# Altium footprint library SparkFun-Batteries.PCBLIB: 17 footprints (part 1 of 2)
Each footprint in its own frame and in the unit in brackets; x right, y up, seen from the top. Pads: shape width x height; smd on the part's side, far side on the other; paste and mask are expansions set on the pad; w line width, h text height; cw(c..) or ccw(c..) is an arc to the next point about the centre after c.
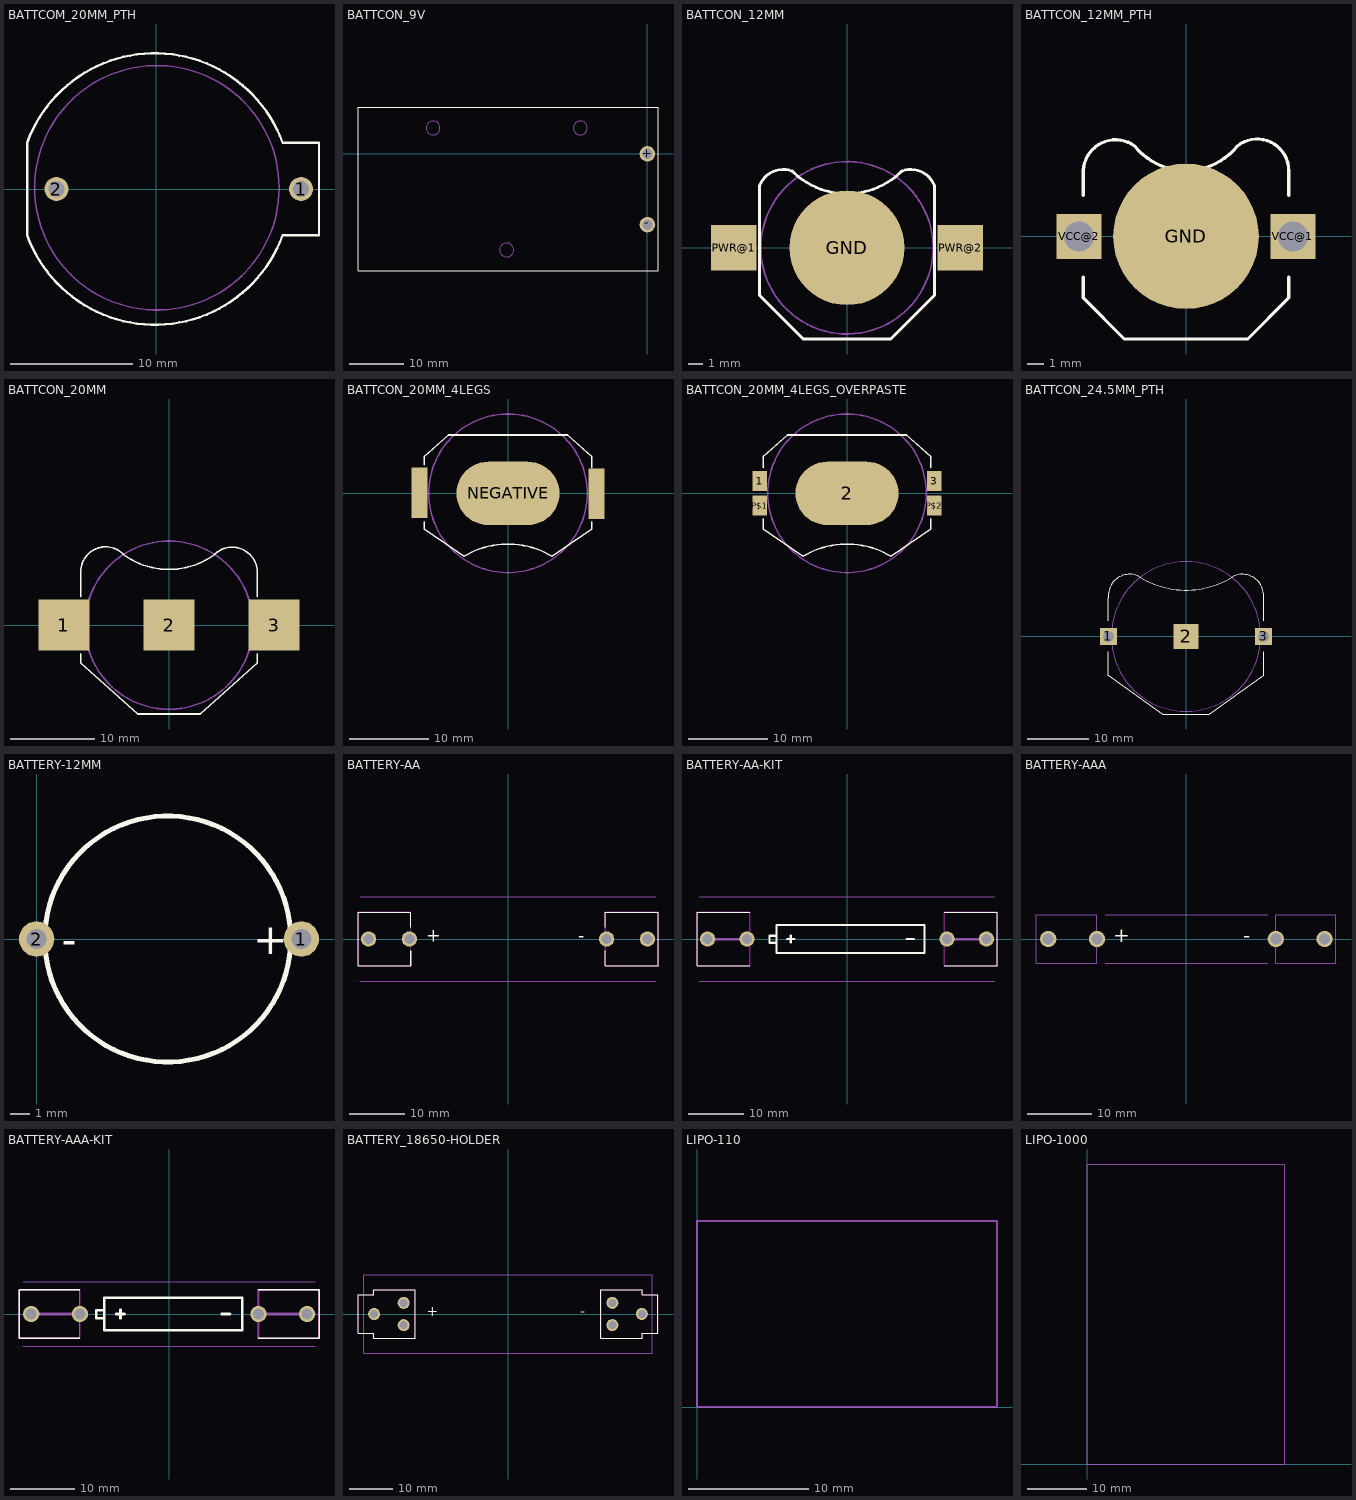
[diagram p0: the footprints below, top view; thin cyan lines are the x and y axes]

## BATTCOM_20MM_PTH [mil]
pads (2):
  round 76.77 hole 51.18: 1(466.54,0) 2(-320.87,0)
Top Overlay:
  lines w8: -414.96,-149.61 ccw(c-3.94,0.57) 407.09,-149.61 524.41,-149.61 524.41,149.61 407.09,149.61 ccw(c-3.94,-0.57) -414.96,149.61 -414.96,-149.61
Mechanical 16:
  circle w5: c2.36,3.94 r393.7
  text "-" at -251.97,-27.56 h77.5
  text "+" at 338.58,-27.56 h77.5
3D body: height 334.65, standoff -157.48, extent -433.07,-433.07 531.5,433.07

## BATTCON_9V [mil]
pads (2):
  round 112.5 hole 75: +(0,0) -(0,-510)
Top Overlay:
  lines w8: -2087,-843 -2087,337 76,337 76,-843 -2087,-843
Mechanical 16:
  circle w5: c-1015,-693 r50
  circle w5: c-484,187 r50
  circle w5: c-1546,187 r50

## BATTCON_12MM [mil]
pads (3):
  rrect100% 314.96x314.96 smd: GND(0,0)
  rect 125x125 smd: PWR@1(-310,0) PWR@2(310,0)
Top Overlay:
  lines w8: -240,-130 -120,-250 120,-250 240,-130 240,170 ccw(c175,145) 150,210 cw(c0,360) -150,210 ccw(c-175,145) -240,170 -240,-130
Top Paste:
  circle w78.74: c0,0 r39.37
Mechanical 16:
  circle w5: c0,0 r236.22
Mechanical 27:
  circle w5: c0,0 r236.22

## BATTCON_12MM_PTH [mil]
pads (3):
  rrect100% 354.33x354.33 smd: GND(0,0)
  rect 109.5x109.5 hole 73: VCC@1(260,0) VCC@2(-260,0)
Top Overlay:
  lines w8: -250,-100 -250,-150 -150,-250 150,-250 250,-150 250,-100 ; -250,100 -250,160 cw(c-171.35,156.35) -125,220 ccw(c0,320.21) 125,220 cw(c173.12,160.04) 250,160 250,100
Top Paste:
  circle w78.74: c0,0 r39.37

## BATTCON_20MM [mil]
pads (3):
  rect 238.98x238.98 smd: 1(-492.13,0) 2(0,0) 3(492.13,0)
Top Overlay:
  lines w8: -413.39,-133.86 -413.39,-177.17 -145.67,-416.14 145.67,-416.14 413.39,-177.17 413.39,-133.86 ; -413.39,133.86 -413.39,248.03 cw(c-296.55,249.77) -208.66,326.77 ccw(c0,624.77) 208.66,326.77 cw(c295.52,247.08) 413.39,248.03 413.39,133.86
Mechanical 16:
  circle w8: c0,0 r393.7

## BATTCON_20MM_4LEGS [mil]
pads (5):
  rrect100% 511.81x314.96 smd: NEGATIVE(0,0)
  rect 80x125 smd: POSITIVE@1(-440,65) POSITIVE@2(-440,-60) POSITIVE@3(440,60) POSITIVE@4(440,-65)
Top Overlay:
  lines w8: -415.35,-140.98 -415.35,-179.13 -218.5,-312.99 cw(c0,-673.66) 218.5,-312.99 415.35,-179.13 415.35,-140.98 ; -415.35,140.98 -415.35,183.07 -295.28,289.37 295.28,289.37 415.35,183.07 415.35,125.98
Top Paste:
  rectangle: 390,-140 530,140
  rectangle: -530,-135 -390,145
  rectangle: -78.74,-78.74 78.74,78.74
Mechanical 16:
  circle w8: c0,0 r393.7
  lines w8: -450.79,-100.39 -450.79,-21.65 -415.35,-21.65 -415.35,-100.39 -450.79,-100.39 ; -450.79,21.65 -450.79,100.39 -415.35,100.39 -415.35,21.65 -450.79,21.65 ; 415.35,-100.39 450.79,-100.39 450.79,-21.65 415.35,-21.65 415.35,-100.39 ; 415.35,21.65 450.79,21.65 450.79,100.39 415.35,100.39 415.35,21.65

## BATTCON_20MM_4LEGS_OVERPASTE [mil]
pads (5):
  rect 70x100 smd: 1(-433.07,61.02) 3(433.07,61.02) P$1(-433.07,-61.02) P$2(433.07,-61.02)
  rrect100% 511.81x314.96 smd: 2(0,0)
Top Overlay:
  lines w8: -415.35,-125.98 -415.35,-179.13 -218.5,-312.99 cw(c0,-673.66) 218.5,-312.99 415.35,-179.13 415.35,-125.98 ; -415.35,125.98 -415.35,183.07 -295.28,289.37 295.28,289.37 415.35,183.07 415.35,125.98
Top Paste:
  rectangle: 390,-120 550,120
  rectangle: -550,-120 -390,120
  rectangle: -78.74,-78.74 78.74,78.74
Mechanical 16:
  circle w8: c0,0 r393.7
  lines w8: -450.79,-100.39 -450.79,-21.65 -415.35,-21.65 -415.35,-100.39 -450.79,-100.39 ; -450.79,21.65 -450.79,100.39 -415.35,100.39 -415.35,21.65 -450.79,21.65 ; 415.35,-100.39 450.79,-100.39 450.79,-21.65 415.35,-21.65 415.35,-100.39 ; 415.35,21.65 450.79,21.65 450.79,100.39 415.35,100.39 415.35,21.65

## BATTCON_24.5MM_PTH [mil]
pads (3):
  rect 109.5x109.5 hole 73: 1(-500,0) 3(500,0)
  rect 160x160 smd: 2(0,0)
Top Overlay:
  lines w8: -500,-100 -500,-250 -150,-500 150,-500 500,-250 500,-100 ; -500,100 -500,250 cw(c-363.94,264.08) -300,385 ccw(c0,867.1) 300,385 cw(c363.94,264.07) 500,250 500,100
Mechanical 16:
  circle w8: c0,0 r482.28

## BATTERY-12MM [mil]
pads (2):
  round 70 hole 40: 1(525,0) 2(0,0)
Top Overlay:
  circle w10: c260,0 r244.09
  text "-" at 50,-30 h60
  text "+" at 430,-30 h60

## BATTERY-AA [mil]
pads (4):
  round 109.5 hole 73: GND@1(990,0) GND@2(700,0) PWR@1(-990,0) PWR@2(-700,0)
Top Layer keep-out:
  lines w8: -690,-190 -690,190
  lines w10: -690,-190 -1065,-190 -1065,190 -690,190 ; 690,-190 690,190 1065,190 1065,-190 690,-190
Top Overlay:
  lines w8: -690,-190 -1065,-190 -1065,190 -690,190 -690,85 ; 690,-85 690,-190 1065,-190 1065,190 690,190 690,85
  lines w10: -690,-190 -690,-85
  text "-" at 500,-50 h155
  text "+" at -580,-50 h155
Mechanical 16:
  lines w5: -1050,-300 1050,-300 ; -1050,300 1050,300

## BATTERY-AA-KIT [mil]
pads (4):
  round 109.5 hole 73: GND@1(990,0) GND@2(710,0) PWR@1(-990,0) PWR@2(-710,0)
Top Layer keep-out:
  lines w10: -1065,-190 -1065,190 -690,190 -690,-190 -1065,-190 ; 690,-190 690,190 1065,190 1065,-190 690,-190
Top Overlay:
  lines w8: -690,-190 -1065,-190 -1065,190 -690,190 ; 690,-190 1065,-190 1065,190 690,190
  lines w16: -425,0 -375,0 ; -400,-25 -400,25 ; 425,0 475,0 ; -500,-27 -550,-27 -550,23 -500,23 ; -500,-27 -500,-100 550,-100 550,100 -500,100 -500,23 ; -500,-27 -500,23
Top Solder:
  region: 711.01,-34.12 709.47,-34.32 700.73,-33.17 692.58,-29.8 685.58,-24.43 680.21,-17.43 676.83,-9.27 675.87,-2.01 675.67,-0.5 676.86,8.51 680.34,16.92 685.87,24.13 693.08,29.66 701.49,33.14 708.99,34.13 709,34.24 709.5,34.3 718.5,33.12 726.9,29.64 734.11,24.11 739.64,16.9 743.12,8.5 744.23,0 744.29,-0.5 743.14,-9.25 739.77,-17.4 734.4,-24.4 727.4,-29.77 719.25,-33.14 711,-34.23
  region: -708.99,-34.12 -710.53,-34.32 -719.27,-33.17 -727.42,-29.8 -734.42,-24.43 -739.79,-17.43 -743.17,-9.27 -744.13,-2.01 -744.33,-0.5 -743.14,8.51 -739.66,16.92 -734.13,24.13 -726.92,29.66 -718.51,33.14 -711.01,34.13 -711,34.24 -710.5,34.3 -701.5,33.12 -693.1,29.64 -685.89,24.11 -680.36,16.9 -676.88,8.5 -675.77,0 -675.71,-0.5 -676.86,-9.25 -680.23,-17.4 -685.6,-24.4 -692.6,-29.77 -700.75,-33.14 -709,-34.23
  region: 991.01,-34.12 989.47,-34.32 980.73,-33.17 972.58,-29.8 965.58,-24.43 960.21,-17.43 956.83,-9.27 955.87,-2.01 955.67,-0.5 956.86,8.51 960.34,16.92 965.87,24.13 973.08,29.66 981.49,33.14 988.99,34.13 989,34.24 989.5,34.3 998.5,33.12 1006.9,29.64 1014.11,24.11 1019.64,16.9 1023.12,8.5 1024.23,0 1024.29,-0.5 1023.14,-9.25 1019.77,-17.4 1014.4,-24.4 1007.4,-29.77 999.25,-33.14 991,-34.23
  region: -988.99,-34.12 -990.53,-34.32 -999.27,-33.17 -1007.42,-29.8 -1014.42,-24.43 -1019.79,-17.43 -1023.17,-9.27 -1024.13,-2.01 -1024.33,-0.5 -1023.14,8.51 -1019.66,16.92 -1014.13,24.13 -1006.92,29.66 -998.51,33.14 -991.01,34.13 -991,34.24 -990.5,34.3 -981.5,33.12 -973.1,29.64 -965.89,24.11 -960.36,16.9 -956.88,8.5 -955.77,0 -955.71,-0.5 -956.86,-9.25 -960.23,-17.4 -965.6,-24.4 -972.6,-29.77 -980.75,-33.14 -989,-34.23
Bottom Solder:
  region: 762.28,-2.01 762.48,-0.5 760.64,13.47 755.25,26.49 746.67,37.67 735.49,46.25 722.47,51.64 710.01,53.28 709.99,53.24 697.89,51.65 684.75,46.2 673.46,37.54 664.8,26.25 659.35,13.11 657.5,-1 657.76,-3.01 657.68,-3.01 659.3,-15.32 664.44,-27.73 672.62,-38.38 683.27,-46.56 695.68,-51.7 709,-53.45 710.01,-53.32 710,-53.38 710.5,-53.45 723.94,-51.68 736.47,-46.49 747.23,-38.23 755.49,-27.47 760.68,-14.94 762.38,-2
  region: -657.72,-2.01 -657.52,-0.5 -659.36,13.47 -664.75,26.49 -673.33,37.67 -684.51,46.25 -697.53,51.64 -709.99,53.28 -710.01,53.24 -722.11,51.65 -735.25,46.2 -746.54,37.54 -755.2,26.25 -760.65,13.11 -762.5,-1 -762.24,-3.01 -762.32,-3.01 -760.7,-15.32 -755.56,-27.73 -747.38,-38.38 -736.73,-46.56 -724.32,-51.7 -711,-53.45 -709.99,-53.32 -710,-53.38 -709.5,-53.45 -696.06,-51.68 -683.53,-46.49 -672.77,-38.23 -664.51,-27.47 -659.32,-14.94 -657.62,-2
  region: 1042.28,-2.01 1042.48,-0.5 1040.64,13.47 1035.25,26.49 1026.67,37.67 1015.49,46.25 1002.47,51.64 990.01,53.28 989.99,53.24 977.89,51.65 964.75,46.2 953.46,37.54 944.8,26.25 939.35,13.11 937.5,-1 937.76,-3.01 937.68,-3.01 939.3,-15.32 944.44,-27.73 952.62,-38.38 963.27,-46.56 975.68,-51.7 989,-53.45 990.01,-53.32 990,-53.38 990.5,-53.45 1003.94,-51.68 1016.47,-46.49 1027.23,-38.23 1035.49,-27.47 1040.68,-14.94 1042.38,-2
  region: -937.72,-2.01 -937.52,-0.5 -939.36,13.47 -944.75,26.49 -953.33,37.67 -964.51,46.25 -977.53,51.64 -989.99,53.28 -990.01,53.24 -1002.11,51.65 -1015.25,46.2 -1026.54,37.54 -1035.2,26.25 -1040.65,13.11 -1042.5,-1 -1042.24,-3.01 -1042.32,-3.01 -1040.7,-15.32 -1035.56,-27.73 -1027.38,-38.38 -1016.73,-46.56 -1004.32,-51.7 -991,-53.45 -989.99,-53.32 -990,-53.38 -989.5,-53.45 -976.06,-51.68 -963.53,-46.49 -952.77,-38.23 -944.51,-27.47 -939.32,-14.94 -937.62,-2
Mechanical 14:
  lines w16: -945.5,-1.9 -744.6,-1.8 ; 744.5,-1.9 945.4,-1.8
Mechanical 16:
  lines w5: -1050,-300 1050,-300 ; -1050,300 1050,300

## BATTERY-AAA [mil]
pads (4):
  round 100.5 hole 67: GND@1(850,0) GND@2(550,0) PWR@1(-850,0) PWR@2(-550,0)
Top Overlay:
  text "-" at 350,-50 h155
  text "+" at -450,-50 h155
Mechanical 16:
  lines w5: -500,-150 500,-150 ; -500,150 500,150 ; -925,-150 -925,150 -550,150 -550,-150 -925,-150 ; 550,-150 920,-150 920,150 550,150 550,-150

## BATTERY-AAA-KIT [mil]
pads (4):
  round 100.5 hole 67: GND@1(850,0) GND@2(550,0) PWR@1(-850,0) PWR@2(-550,0)
Top Layer keep-out:
  lines w8: -923,-150 -923,150
  lines w10: -923,-150 -550,-150 -550,150 -923,150 ; 550,-150 550,150 923,150 923,-150 550,-150
Top Overlay:
  lines w8: -550,-150 -923,-150 -923,150 -550,150 ; 550,-150 923,-150 923,150 550,150
  lines w16: -325,0 -275,0 ; -300,-25 -300,25 ; 325,0 375,0 ; -400,-27 -450,-27 -450,23 -400,23 ; -400,-27 -400,-100 450,-100 450,100 -400,100 -400,23 ; -400,-27 -400,23
Top Solder:
  circle w35: c-850,0 r15.81
  circle w35: c-550,0 r15.81
  circle w35: c850,0 r15.81
  circle w35: c550,0 r15.81
Bottom Solder:
  circle w70: c-850,0 r15.81
  circle w70: c-550,0 r15.81
  circle w70: c850,0 r15.81
  circle w70: c550,0 r15.81
Mechanical 14:
  lines w16: -850,0 -550,0 ; 550,0 850,0
Mechanical 16:
  lines w5: -925,-150 -925,150 ; -900,-200 900,-200 ; -900,200 900,200 ; -550,-150 -550,150 ; 550,-150 923,-150 923,150 550,150 550,-150
  lines w8: -925,-150 -550,-150 ; -925,150 -550,150

## BATTERY_18650-HOLDER [mil]
pads (6):
  round 108 hole 72: GND@1(1205.83,0.39) GND@2(940.16,100.39) GND@3(940.16,-99.61) PWR@1(-1205.83,-0.39) PWR@2(-940.16,99.61) PWR@3(-940.16,-100.39)
Top Layer keep-out:
  lines w8: -1351.37,-175 -1351.37,175 -1214.37,175 -1214.37,219 -839.37,219 -839.37,-219 -1214.37,-219 -1214.37,-175 -1351.37,-175 ; 835.83,-218.61 1211.22,-218.61 1211.22,-174.61 1348.22,-174.61 1348.22,175.39 1211.22,175.39 1211.22,219.39 835.83,219.39 835.83,-218.61 ; 839.37,-219 1214.37,-219 1214.37,-175 1351.37,-175 1351.37,175 1214.37,175 1214.37,219 839.37,219 839.37,-219
Top Overlay:
  lines w8: -1348.22,-175.39 -1348.22,174.61 -1211.22,174.61 -1211.22,218.61 -835.83,218.61 -835.83,-219.39 -1211.22,-219.39 -1211.22,-175.39 -1348.22,-175.39 ; 835.83,-218.61 1211.22,-218.61 1211.22,-174.61 1348.22,-174.61 1348.22,175.39 1211.22,175.39 1211.22,219.39 835.83,219.39 835.83,-218.61
  text "-" at 650,-50 h155
  text "+" at -730,-50 h155
Mechanical 16:
  lines w5: -1299.21,-354.33 -1299.21,354.33 1299.21,354.33 1299.21,-354.33 -1299.21,-354.33

## LIPO-110 [mil]
Mechanical 16:
  lines w5: 0,0 984.25,0 984.25,610.24 0,610.24 0,0

## LIPO-1000 [mil]
Mechanical 16:
  lines w8: 0,0 0,2000 1318.9,2000 1318.9,0 0,0